# Altium integrated library TMDS251.IntLib: 1 symbol
Pins are listed as number, name and electrical type; pins without a type are passive.

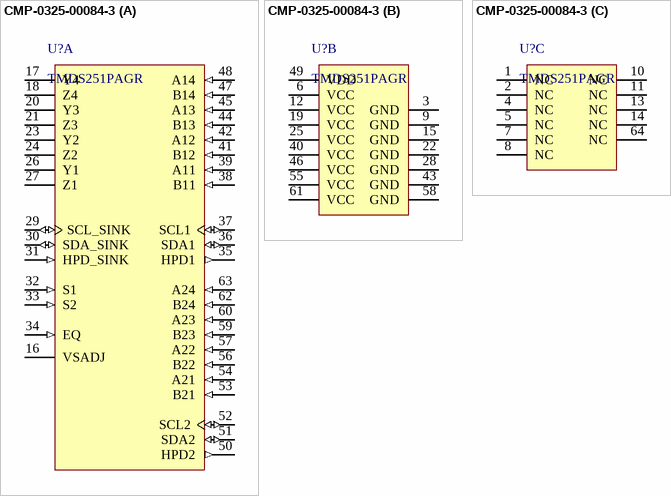
[diagram p0: symbol CMP-0325-00084-3]

## CMP-0325-00084-3
designator U?, comment TMDS251PAGR
2.5 Gbps 2 to 1 DVI / HDMI Switch, 200 mA, 8 kV, 0 to +70 degC, 64-pin TQPF (PAG), Green (RoHS & no Sb/Br); Manufacturer: Texas Instruments; Data P-P Jitter(Max)(ps): 90; No. of TMDS Outputs: 1; No. of TMDS Inputs: 2; ESD HBM(kV): 8; TMDS Input Equalization: TRUE; Intra-Pair Skew(Max)(ps): 40; Inter-Pair Skew(Max)(ps): 65; Clock P-P Jitter(Max)(ps): 30; SubFamily: DVI/HDMI Repeater/Switch; ICC(Max)(mA): 200; PackageDescription: 64-Pin Thin Quad Flat Pack 0.5 mm Pitch; Eco-Plan: Green (RoHS & no Sb/Br); ComponentLink2Description: Datasheet; ComponentLink2URL: http://www.ti.com/general/docs/lit/getliterature.tsp?genericPartNumber=TMDS251&fileType=pdf; PackageReference: PAG0064A; DatasheetVersion: SLLS852A; PartNumber: TMDS251PAGR; ComponentLink1URL: http://www.ti.com/; ComponentLink1Description: Manufacturer URL; ComponentLink3URL: SamplesURL:http://www.ti.com/product/tmds251#samples; Mounting Technology: Surface Mount; ComponentLink3Description: URL Link1
footprint PAG0064A_L (QFP, 64-Leads, Body 10x10mm, Pitch 0.5mm, IPC High Density)
footprint PAG0064A_M (QFP, 64-Leads, Body 10x10mm, Pitch 0.5mm, IPC Low Density)
footprint PAG0064A_N (QFP, 64-Leads, Body 10x10mm, Pitch 0.5mm, IPC Medium Density)
part A pins: 16 VSADJ (hiz) "TMDS compliant voltage swing control (control pin)", 17 Y4 (hiz) "Sink port TMDS positive outputs", 18 Z4 (hiz) "Sink port TMDS negative outputs", 20 Y3 (hiz) "Sink port TMDS positive outputs", 21 Z3 (hiz) "Sink port TMDS negative outputs", 23 Y2 (hiz) "Sink port TMDS positive outputs", 24 Z2 (hiz) "Sink port TMDS negative outputs", 26 Y1 (hiz) "Sink port TMDS positive outputs", 27 Z1 (hiz) "Sink port TMDS negative outputs", 29 SCL_SINK (io) "Sink port DDC I2C clock line", 30 SDA_SINK (io) "Sink port DDC I2C data line", 31 HPD_SINK (in) "Sink port hot plug detector input (status pin)", 32 S1 (in) "Source selector", 33 S2 (in) "Source selector", 34 EQ (in) "TMDS Input equalization selector (control pin) EQ 34 I EQ = Low - HDMI 1.3 compliant cable EQ = High - 10m 28 AWG HDMI cable", 35 HPD1 (out) "Source port 1 hot plug detector output (status pin)", 36 SDA1 (io) "Source port 1 DDC I2C data line", 37 SCL1 (io) "Source port 1 DDC I2C clock line", 38 B11 (in) "Source port 1 TMDS negative inputs", 39 A11 (in) "Source port 1 TMDS positive inputs", 41 B12 (in) "Source port 1 TMDS negative inputs", 42 A12 (in) "Source port 1 TMDS positive inputs", 44 B13 (in) "Source port 1 TMDS negative inputs", 45 A13 (in) "Source port 1 TMDS positive inputs", 47 B14 (in) "Source port 1 TMDS negative inputs", 48 A14 (in) "Source port 1 TMDS positive inputs", 50 HPD2 (out) "Source port 2 hot plug detector output (status pin)", 51 SDA2 (io) "Source port 2 DDC I2C data line", 52 SCL2 (io) "Source port 2 DDC I2C clock line", 53 B21 (in) "Source port 2 TMDS negative inputs", 54 A21 (in) "Source port 2 TMDS positive inputs", 56 B22 (in) "Source port 2 TMDS negative inputs", 57 A22 (in) "Source port 2 TMDS positive inputs", 59 B23 (in) "Source port 2 TMDS negative inputs", 60 A23 (in) "Source port 2 TMDS positive inputs", 62 B24 (in) "Source port 2 TMDS negative inputs", 63 A24 (in) "Source port 2 TMDS positive inputs"
part B pins: 3 GND (power) "Ground", 6 VCC (power) "Power supply", 9 GND (power) "Ground", 12 VCC (power) "Power supply", 15 GND (power) "Ground", 19 VCC (power) "Power supply", 22 GND (power) "Ground", 25 VCC (power) "Power supply", 28 GND (power) "Ground", 40 VCC (power) "Power supply", 43 GND (power) "Ground", 46 VCC (power) "Power supply", 49 VDD (power) "HPD/DDC Power supply", 55 VCC (power) "Power supply", 58 GND (power) "Ground", 61 VCC (power) "Power supply"
part C pins: 1 NC "No connect: these pins should be left floating", 2 NC "No connect: these pins should be left floating", 4 NC "No connect: these pins should be left floating", 5 NC "No connect: these pins should be left floating", 7 NC "No connect: these pins should be left floating", 8 NC "No connect: these pins should be left floating", 10 NC "No connect: these pins should be left floating", 11 NC "No connect: these pins should be left floating", 13 NC "No connect: these pins should be left floating", 14 NC "No connect: these pins should be left floating", 64 NC "No connect: these pins should be left floating"